# Altium footprint library Capacitor_THT.PcbLib: 378 footprints (part 6 of 24)
Each footprint in its own frame and in the unit in brackets; x right, y up, seen from the top. Pads: shape width x height; smd on the part's side, far side on the other; paste and mask are expansions set on the pad; w line width, h text height; cw(c..) or ccw(c..) is an arc to the next point about the centre after c.
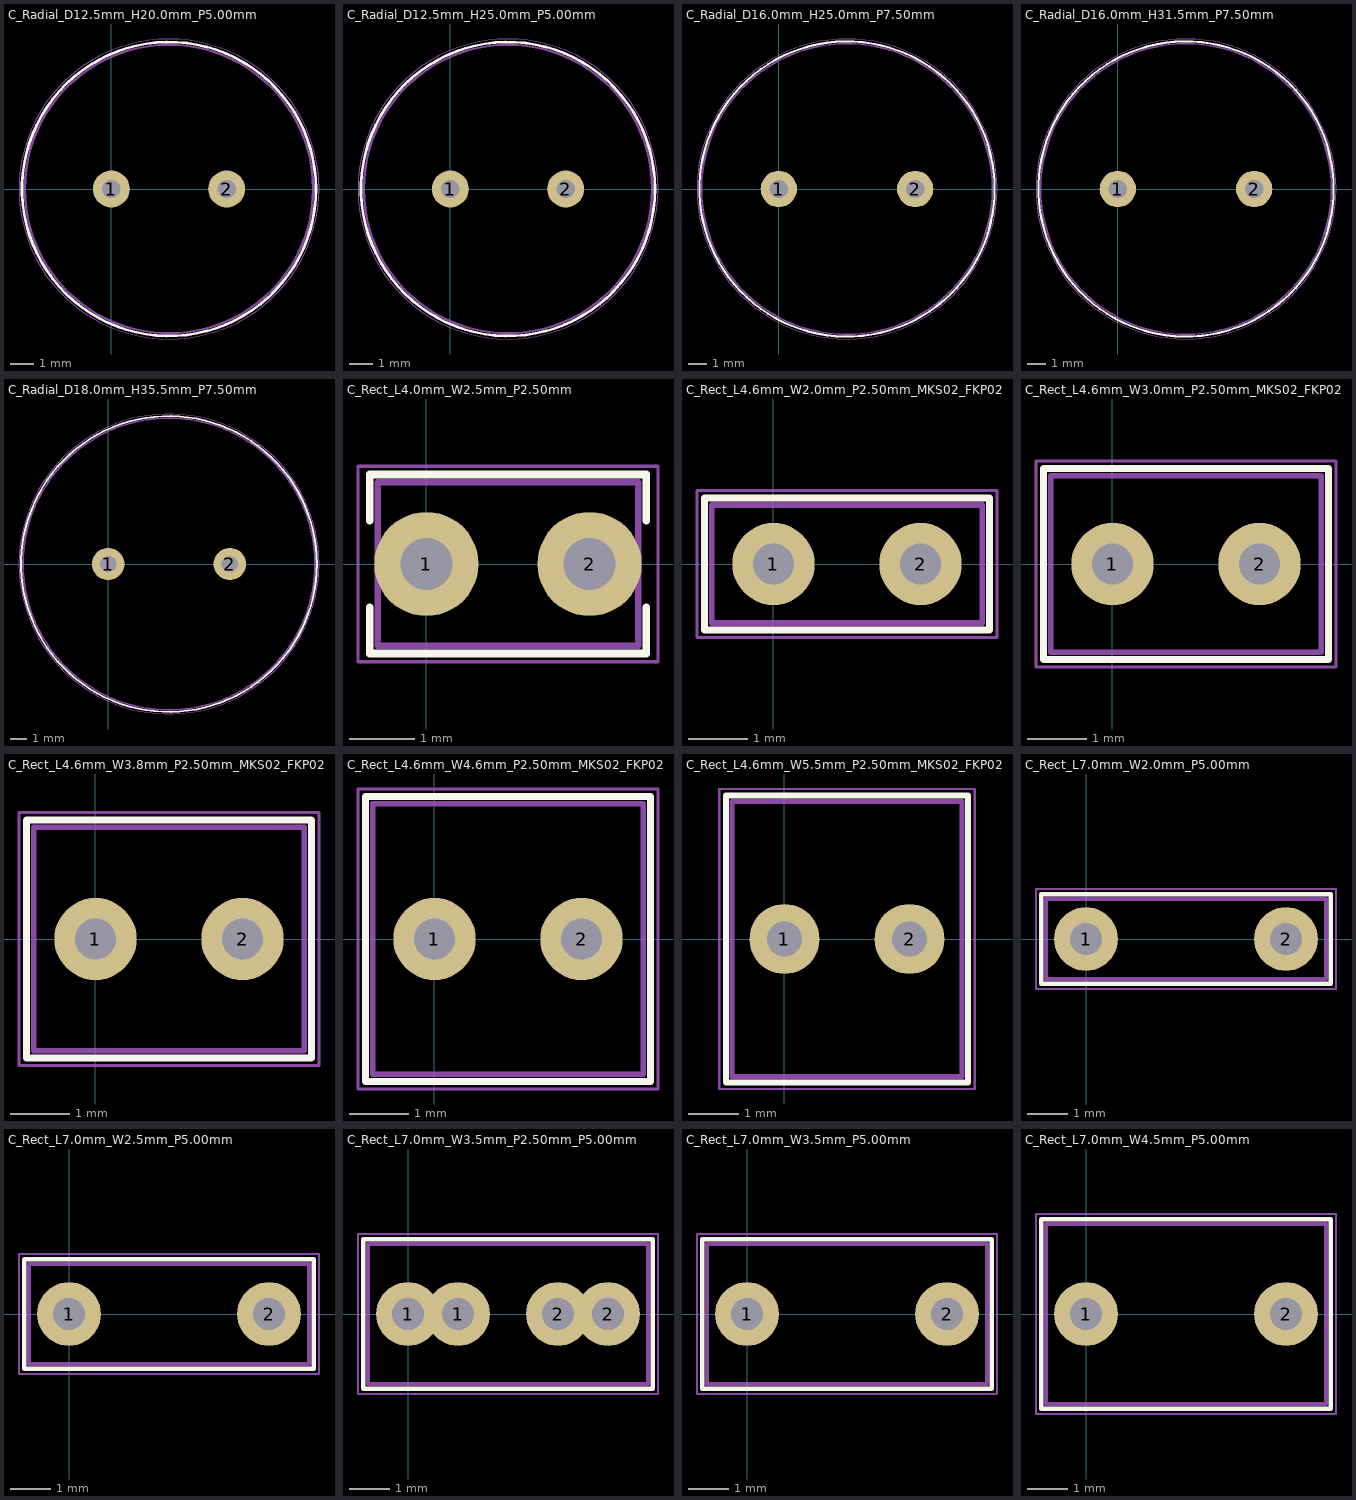
[diagram p5: the footprints below, top view; thin cyan lines are the x and y axes]

## C_Radial_D12.5mm_H20.0mm_P5.00mm [mm]
pads (2):
  round 1.6 hole 0.8: 1(0,0) 2(5,0)
F.SilkS:
  circle w0.12: c2.5,0 r6.37
F.CrtYd:
  circle w0.05: c2.5,0 r6.5
F.Fab:
  circle w0.1: c2.5,0 r6.25
  text "'.Designator'" at -1.547,-0.84 h1

## C_Radial_D12.5mm_H25.0mm_P5.00mm [mm]
pads (2):
  round 1.6 hole 0.8: 1(0,0) 2(5,0)
F.SilkS:
  circle w0.12: c2.5,0 r6.37
F.CrtYd:
  circle w0.05: c2.5,0 r6.5
F.Fab:
  circle w0.1: c2.5,0 r6.25
  text "'.Designator'" at -1.547,-0.84 h1

## C_Radial_D16.0mm_H25.0mm_P7.50mm [mm]
pads (2):
  round 2 hole 1: 1(0,0) 2(7.5,0)
F.SilkS:
  circle w0.12: c3.75,0 r8.12
F.CrtYd:
  circle w0.05: c3.75,0 r8.25
F.Fab:
  circle w0.1: c3.75,0 r8
  text "'.Designator'" at -0.297,-0.84 h1

## C_Radial_D16.0mm_H31.5mm_P7.50mm [mm]
pads (2):
  round 2 hole 1: 1(0,0) 2(7.5,0)
F.SilkS:
  circle w0.12: c3.75,0 r8.12
F.CrtYd:
  circle w0.05: c3.75,0 r8.25
F.Fab:
  circle w0.1: c3.75,0 r8
  text "'.Designator'" at -0.297,-0.84 h1

## C_Radial_D18.0mm_H35.5mm_P7.50mm [mm]
pads (2):
  round 2 hole 1: 1(0,0) 2(7.5,0)
F.SilkS:
  circle w0.12: c3.75,0 r9.12
F.CrtYd:
  circle w0.05: c3.75,0 r9.25
F.Fab:
  circle w0.1: c3.75,0 r9
  text "'.Designator'" at -0.297,-0.84 h1

## C_Rect_L4.0mm_W2.5mm_P2.50mm [mm]
pads (2):
  round 1.6 hole 0.8: 1(0,0) 2(2.5,0)
F.SilkS:
  lines w0.12: -0.87,-0.665 -0.87,-1.37 3.37,-1.37 3.37,-0.665 ; -0.87,0.665 -0.87,1.37 3.37,1.37 3.37,0.665
F.CrtYd:
  lines w0.05: -1.05,-1.5 3.55,-1.5 3.55,1.5 -1.05,1.5 -1.05,-1.5
F.Fab:
  lines w0.1: -0.75,-1.25 -0.75,1.25 3.25,1.25 3.25,-1.25 -0.75,-1.25
  text "'.Designator'" at -1.987,-0.672 h0.8

## C_Rect_L4.6mm_W2.0mm_P2.50mm_MKS02_FKP02 [mm]
pads (2):
  round 1.4 hole 0.7: 1(0,0) 2(2.5,0)
F.SilkS:
  lines w0.12: -1.17,-1.12 3.67,-1.12 3.67,1.12 -1.17,1.12 -1.17,-1.12
F.CrtYd:
  lines w0.05: -1.3,-1.25 -1.3,1.25 3.8,1.25 3.8,-1.25 -1.3,-1.25
F.Fab:
  lines w0.1: -1.05,-1 3.55,-1 3.55,1 -1.05,1 -1.05,-1
  text "'.Designator'" at -2.473,-0.773 h0.92

## C_Rect_L4.6mm_W3.0mm_P2.50mm_MKS02_FKP02 [mm]
pads (2):
  round 1.4 hole 0.7: 1(0,0) 2(2.5,0)
F.SilkS:
  lines w0.12: -1.17,-1.62 3.67,-1.62 3.67,1.62 -1.17,1.62 -1.17,-1.62
F.CrtYd:
  lines w0.05: -1.3,-1.75 -1.3,1.75 3.8,1.75 3.8,-1.75 -1.3,-1.75
F.Fab:
  lines w0.1: -1.05,-1.5 -1.05,1.5 3.55,1.5 3.55,-1.5 -1.05,-1.5
  text "'.Designator'" at -2.473,-0.773 h0.92

## C_Rect_L4.6mm_W3.8mm_P2.50mm_MKS02_FKP02 [mm]
pads (2):
  round 1.4 hole 0.7: 1(0,0) 2(2.5,0)
F.SilkS:
  lines w0.12: -1.17,-2.02 3.67,-2.02 3.67,2.02 -1.17,2.02 -1.17,-2.02
F.CrtYd:
  lines w0.05: -1.3,-2.15 3.8,-2.15 3.8,2.15 -1.3,2.15 -1.3,-2.15
F.Fab:
  lines w0.1: -1.05,-1.9 -1.05,1.9 3.55,1.9 3.55,-1.9 -1.05,-1.9
  text "'.Designator'" at -2.473,-0.773 h0.92

## C_Rect_L4.6mm_W4.6mm_P2.50mm_MKS02_FKP02 [mm]
pads (2):
  round 1.4 hole 0.7: 1(0,0) 2(2.5,0)
F.SilkS:
  lines w0.12: -1.17,-2.42 3.67,-2.42 3.67,2.42 -1.17,2.42 -1.17,-2.42
F.CrtYd:
  lines w0.05: -1.3,-2.55 3.8,-2.55 3.8,2.55 -1.3,2.55 -1.3,-2.55
F.Fab:
  lines w0.1: -1.05,-2.3 3.55,-2.3 3.55,2.3 -1.05,2.3 -1.05,-2.3
  text "'.Designator'" at -2.473,-0.773 h0.92

## C_Rect_L4.6mm_W5.5mm_P2.50mm_MKS02_FKP02 [mm]
pads (2):
  round 1.4 hole 0.7: 1(0,0) 2(2.5,0)
F.SilkS:
  lines w0.12: -1.17,-2.87 3.67,-2.87 3.67,2.87 -1.17,2.87 -1.17,-2.87
F.CrtYd:
  lines w0.05: -1.3,-3 3.8,-3 3.8,3 -1.3,3 -1.3,-3
F.Fab:
  lines w0.1: -1.05,-2.75 3.55,-2.75 3.55,2.75 -1.05,2.75 -1.05,-2.75
  text "'.Designator'" at -2.473,-0.773 h0.92

## C_Rect_L7.0mm_W2.0mm_P5.00mm [mm]
pads (2):
  round 1.6 hole 0.8: 1(0,0) 2(5,0)
F.SilkS:
  lines w0.12: -1.12,-1.12 -1.12,1.12 6.12,1.12 6.12,-1.12 -1.12,-1.12
F.CrtYd:
  lines w0.05: -1.25,-1.25 6.25,-1.25 6.25,1.25 -1.25,1.25 -1.25,-1.25
F.Fab:
  lines w0.1: -1,-1 6,-1 6,1 -1,1 -1,-1
  text "'.Designator'" at -1.547,-0.84 h1

## C_Rect_L7.0mm_W2.5mm_P5.00mm [mm]
pads (2):
  round 1.6 hole 0.8: 1(0,0) 2(5,0)
F.SilkS:
  lines w0.12: -1.12,-1.37 6.12,-1.37 6.12,1.37 -1.12,1.37 -1.12,-1.37
F.CrtYd:
  lines w0.05: -1.25,-1.5 6.25,-1.5 6.25,1.5 -1.25,1.5 -1.25,-1.5
F.Fab:
  lines w0.1: -1,-1.25 -1,1.25 6,1.25 6,-1.25 -1,-1.25
  text "'.Designator'" at -1.547,-0.84 h1

## C_Rect_L7.0mm_W3.5mm_P2.50mm_P5.00mm [mm]
pads (4):
  round 1.6 hole 0.8: 1(0,0) 1(1.25,0) 2(3.75,0) 2(5,0)
F.SilkS:
  lines w0.12: -1.12,-1.87 -1.12,1.87 6.12,1.87 6.12,-1.87 -1.12,-1.87
F.CrtYd:
  lines w0.05: -1.25,-2 -1.25,2 6.25,2 6.25,-2 -1.25,-2
F.Fab:
  lines w0.1: -1,-1.75 -1,1.75 6,1.75 6,-1.75 -1,-1.75
  text "'.Designator'" at -2.797,-0.84 h1

## C_Rect_L7.0mm_W3.5mm_P5.00mm [mm]
pads (2):
  round 1.6 hole 0.8: 1(0,0) 2(5,0)
F.SilkS:
  lines w0.12: -1.12,-1.87 6.12,-1.87 6.12,1.87 -1.12,1.87 -1.12,-1.87
F.CrtYd:
  lines w0.05: -1.25,-2 6.25,-2 6.25,2 -1.25,2 -1.25,-2
F.Fab:
  lines w0.1: -1,-1.75 6,-1.75 6,1.75 -1,1.75 -1,-1.75
  text "'.Designator'" at -1.547,-0.84 h1

## C_Rect_L7.0mm_W4.5mm_P5.00mm [mm]
pads (2):
  round 1.6 hole 0.8: 1(0,0) 2(5,0)
F.SilkS:
  lines w0.12: -1.12,-2.37 -1.12,2.37 6.12,2.37 6.12,-2.37 -1.12,-2.37
F.CrtYd:
  lines w0.05: -1.25,-2.5 -1.25,2.5 6.25,2.5 6.25,-2.5 -1.25,-2.5
F.Fab:
  lines w0.1: -1,-2.25 6,-2.25 6,2.25 -1,2.25 -1,-2.25
  text "'.Designator'" at -1.547,-0.84 h1